# Altium schematic symbol library tas_schematics_lib.SchLib: 3 symbols
Pins are listed as number, name and electrical type; pins without a type are passive.

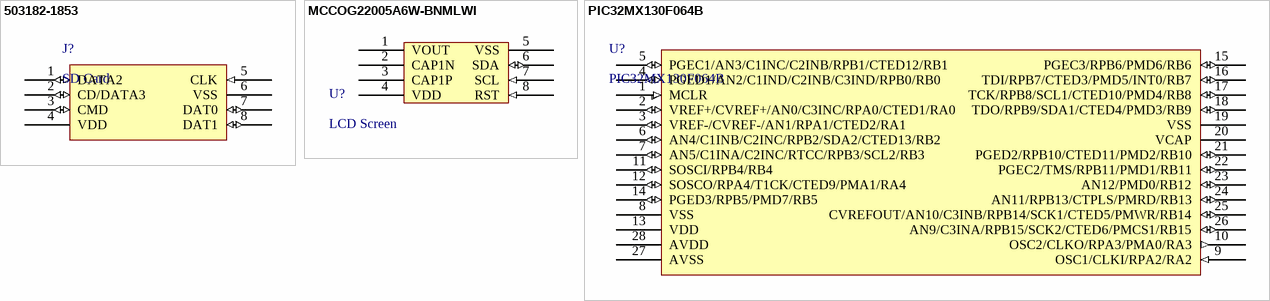
[diagram p0: symbols 503182-1853 to PIC32MX130F064B]

## 503182-1853
designator J?, comment SD Card
pins: 1 DATA2 (io), 2 CD/DATA3 (io), 3 CMD (io), 4 VDD (power), 5 CLK (in), 6 VSS (power), 7 DAT0 (io), 8 DAT1 (io)

## MCCOG22005A6W-BNMLWI
designator U?, comment LCD Screen
pins: 1 VOUT (power), 2 CAP1N (power), 3 CAP1P (power), 4 VDD (power), 5 VSS (power), 6 SDA (io), 7 SCL (in), 8 RST (in)

## PIC32MX130F064B
designator U?
pins: 1 MCLR (in), 2 VREF+/CVREF+/AN0/C3INC/RPA0/CTED1/RA0 (io), 3 VREF-/CVREF-/AN1/RPA1/CTED2/RA1 (io), 4 PGED1/AN2/C1IND/C2INB/C3IND/RPB0/RB0 (io), 5 PGEC1/AN3/C1INC/C2INB/RPB1/CTED12/RB1 (io), 6 AN4/C1INB/C2INC/RPB2/SDA2/CTED13/RB2 (io), 7 AN5/C1INA/C2INC/RTCC/RPB3/SCL2/RB3 (io), 8 VSS (power), 9 OSC1/CLKI/RPA2/RA2 (in), 10 OSC2/CLKO/RPA3/PMA0/RA3 (out), 11 SOSCI/RPB4/RB4 (io), 12 SOSCO/RPA4/T1CK/CTED9/PMA1/RA4 (io), 13 VDD (power), 14 PGED3/RPB5/PMD7/RB5 (io), 15 PGEC3/RPB6/PMD6/RB6 (io), 16 TDI/RPB7/CTED3/PMD5/INT0/RB7 (io), 17 TCK/RPB8/SCL1/CTED10/PMD4/RB8 (io), 18 TDO/RPB9/SDA1/CTED4/PMD3/RB9 (io), 19 VSS (power), 20 VCAP (power), 21 PGED2/RPB10/CTED11/PMD2/RB10 (io), 22 PGEC2/TMS/RPB11/PMD1/RB11 (io), 23 AN12/PMD0/RB12 (io), 24 AN11/RPB13/CTPLS/PMRD/RB13 (io), 25 CVREFOUT/AN10/C3INB/RPB14/SCK1/CTED5/PMWR/RB14 (io), 26 AN9/C3INA/RPB15/SCK2/CTED6/PMCS1/RB15 (io), 27 AVSS (power), 28 AVDD (power)